# Altium schematic symbol library PCB_library.SchLib: 27 symbols
Pins are listed as number, name and electrical type; pins without a type are passive.

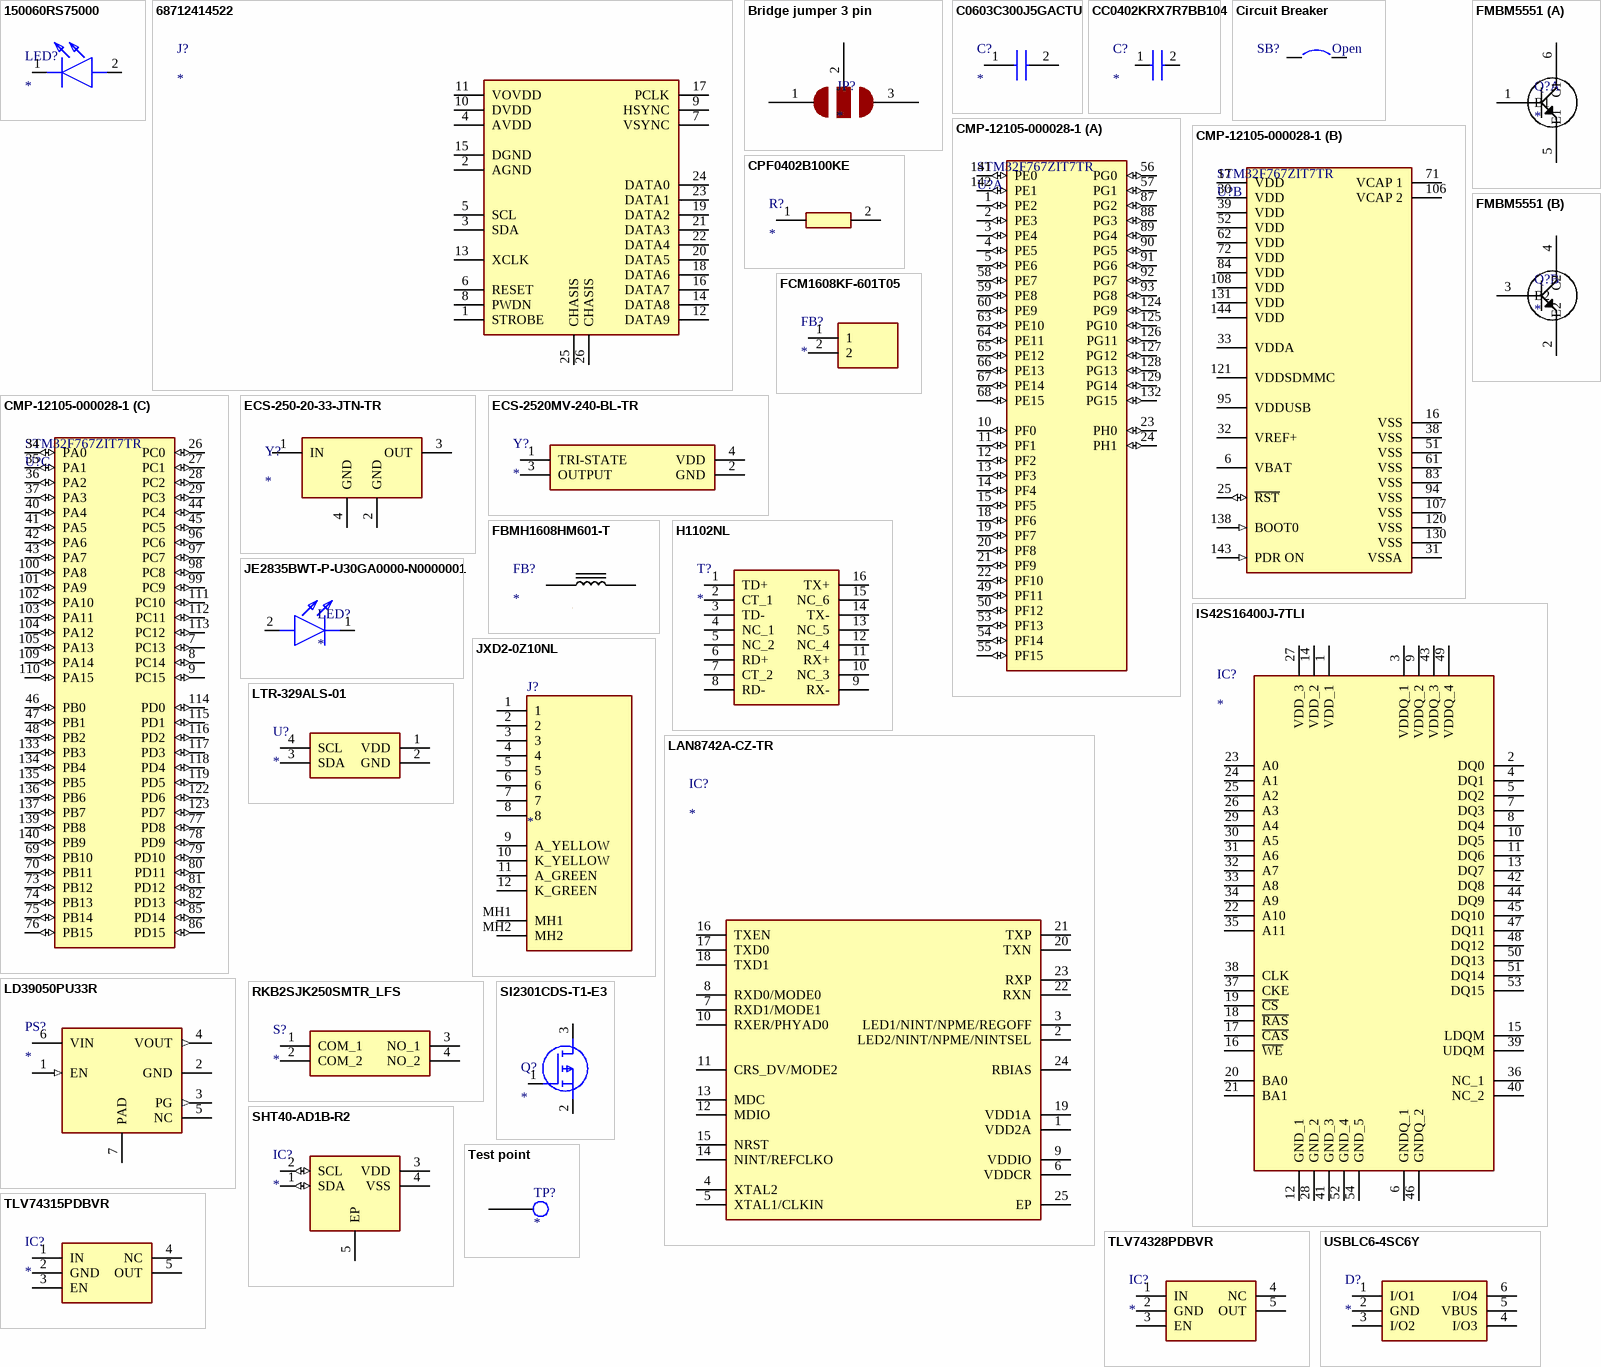
[diagram p0: symbols 150060RS75000 to USBLC6-4SC6Y]

## 150060RS75000
designator LED?
LED; Manufacturer_Name: Wurth Elektronik; Manufacturer_Part_Number: 150060RS75000; Datasheet Link: http://katalog.we-online.de/led/datasheet/150060RS75000.pdf; Height: 0.8mm; Mouser Part Number: 710-150060RS75000; Mouser Price/Stock: https://www.mouser.co.uk/ProductDetail/Wurth-Elektronik/150060RS75000?qs=LlUlMxKIyB3QnmZ3fw%2FVCA%3D%3D
footprint LEDC1608X80N
pins: 1 K, 2 A

## 68712414522
designator J?
Connector; Manufacturer_Name: Wurth Elektronik; Manufacturer_Part_Number: 68712414522; Datasheet Link: http://katalog.we-online.com/em/datasheet/6871xx14522.pdf; Height: 2mm; Mouser Part Number: 710-68712414522; Mouser Price/Stock: https://www.mouser.co.uk/ProductDetail/Wurth-Elektronik/68712414522?qs=gQDq3jdaPP%252BItTj8tkqRTw%3D%3D
footprint 68712414522
pins: 1 STROBE, 2 AGND, 3 SDA, 4 AVDD, 5 SCL, 6 RESET, 7 VSYNC, 8 PWDN, 9 HSYNC, 10 DVDD, 11 VOVDD, 12 DATA9, 13 XCLK, 14 DATA8, 15 DGND, 16 DATA7, 17 PCLK, 18 DATA6, 19 DATA2, 20 DATA5, 21 DATA3, 22 DATA4, 23 DATA1, 24 DATA0, 25 CHASIS, 26 CHASIS

## Bridge jumper 3 pin
designator JP?
footprint Bridge jumper 3 pin
pins: 1, 2, 3

## C0603C300J5GACTU
designator C?
Capacitor; Manufacturer_Name: KEMET; Manufacturer_Part_Number: C0603C300J5GACTU; Description: SMD Comm C0G; Datasheet Link: https://content.kemet.com/datasheets/KEM_C1003_C0G_SMD.pdf; Height: 0.87mm; Mouser Part Number: 80-C0603C300J5G; Mouser Price/Stock: https://www.mouser.co.uk/ProductDetail/KEMET/C0603C300J5GACTU?qs=KQYYlyH3z3RpeXhtJmCcMA%3D%3D; Arrow Part Number: C0603C300J5GACTU; Arrow Price/Stock: https://www.arrow.com/en/products/c0603c300j5gactu/kemet-corporation
footprint CAPC1608X87N
pins: 1, 2

## CC0402KRX7R7BB104
designator C?
Capacitor; Manufacturer_Name: KEMET; Manufacturer_Part_Number: CC0402KRX7R7BB104; Datasheet Link: http://www.datasheets360.com/pdf/-5354154806277341459; Height: 0.55mm; Mouser Part Number: 603-CC402KRX7R7BB104; Mouser Price/Stock: https://www.mouser.co.uk/ProductDetail/YAGEO/CC0402KRX7R7BB104?qs=AgBp2OyFlx%252BSOyhfyS7hpw%3D%3D; Arrow Part Number: CC0402KRX7R7BB104; Arrow Price/Stock: https://www.arrow.com/en/products/cc0402krx7r7bb104/yageo?region=nac
footprint CAPC1005X55N
pins: 1, 2

## Circuit Breaker
designator SB?, comment Open
Circuit Breaker; Published: 24-Mar-1999; Revision: July-2002: Re-released for DXP Platform.; Publisher: Altium Limited
footprint SB_0603 (Jumper)
pins: 1, 2

## CMP-12105-000028-1
designator U?, comment STM32F767ZIT7TR
ARM® Cortex®-M7 STM32F7 Microcontroller IC 32-Bit 216MHz 2MB (2M x 8) FLASH 144-LQFP (20x20); Manufacturer: STMicroelectronics; Standoff Height: 0.05mm; Number Of A/D Converters: 3; Ram Size: 512KBytes; Number Of Uart Channels: 8; Number Of Cores: 1; Max Junction Temp: +125°C; Number Of I/Os: 114; Core Architecture: ARM Cortex-M7; Number Of Spi Channels: 6; Interface: I2C,SPI,UART,USART,CAN,USB,LIN,IrDA,I2S,SMBus,Other; Max Supply Voltage: 3.6V; Number Of Adc Channels: 24; Memory Size: 2048KBytes; Min Supply Voltage: 1.65V; Number Of I2C Channels: 4; Number Of Timers/Counters: 15; Data Bus Width: 32bits; Temperature Range Low: -40°C; Category: IC; Memory Type: FLASH; Ambient Temperature Range Low: -40°C; RoHS: TRUE; ComponentLink2URL: https://www.st.com/resource/en/datasheet/stm32f767zi.pdf; Frequency: 216MHz; Temperature Range High: +125°C; Temperature: -40°C to +125°C; Manufacturer Part Number: STM32F767ZIT7TR; Package: LQFP144-1A; Number Of Usb Channels: 1; Device Class L1: Integrated Circuits (ICs); Octopart: https://octopart.com/stm32f767zit7tr-stmicroelectronics-104904785; Device Class L3: Microcontrollers; Ambient Temperature Range High: +105°C; ComponentLink2Description: Datasheet; Automotive: No; Lead Free: Yes; Device Class L2: Embedded Processors and Controllers; Height: 1.6mm
footprint FP-LQFP144-1A-IPC_C
footprint FP-LQFP144-1A-MFG
footprint FP-LQFP144-1A-IPC_A
footprint FP-LQFP144-1A-IPC_B
part A pins: 1 PE2 (io), 2 PE3 (io), 3 PE4 (io), 4 PE5 (io), 5 PE6 (io), 10 PF0 (io), 11 PF1 (io), 12 PF2 (io), 13 PF3 (io), 14 PF4 (io), 15 PF5 (io), 18 PF6 (io), 19 PF7 (io), 20 PF8 (io), 21 PF9 (io), 22 PF10 (io), 23 PH0 (io), 24 PH1 (io), 49 PF11 (io), 50 PF12 (io), 53 PF13 (io), 54 PF14 (io), 55 PF15 (io), 56 PG0 (io), 57 PG1 (io), 58 PE7 (io), 59 PE8 (io), 60 PE9 (io), 63 PE10 (io), 64 PE11 (io), 65 PE12 (io), 66 PE13 (io), 67 PE14 (io), 68 PE15 (io), 87 PG2 (io), 88 PG3 (io), 89 PG4 (io), 90 PG5 (io), 91 PG6 (io), 92 PG7 (io), 93 PG8 (io), 124 PG9 (io), 125 PG10 (io), 126 PG11 (io), 127 PG12 (io), 128 PG13 (io), 129 PG14 (io), 132 PG15 (io), 141 PE0 (io), 142 PE1 (io)
part B pins: 6 VBAT (power), 16 VSS (power), 17 VDD (power), 25 ~{RST} (io), 30 VDD (power), 31 VSSA (power), 32 VREF+ (power), 33 VDDA (power), 38 VSS (power), 39 VDD (power), 51 VSS (power), 52 VDD (power), 61 VSS (power), 62 VDD (power), 71 VCAP 1 (power), 72 VDD (power), 83 VSS (power), 84 VDD (power), 94 VSS (power), 95 VDDUSB (power), 106 VCAP 2 (power), 107 VSS (power), 108 VDD (power), 120 VSS (power), 121 VDDSDMMC (power), 130 VSS (power), 131 VDD (power), 138 BOOT0 (in), 143 PDR ON (in), 144 VDD (power)
part C pins: 7 PC13 (io), 8 PC14 (io), 9 PC15 (io), 26 PC0 (io), 27 PC1 (io), 28 PC2 (io), 29 PC3 (io), 34 PA0 (io), 35 PA1 (io), 36 PA2 (io), 37 PA3 (io), 40 PA4 (io), 41 PA5 (io), 42 PA6 (io), 43 PA7 (io), 44 PC4 (io), 45 PC5 (io), 46 PB0 (io), 47 PB1 (io), 48 PB2 (io), 69 PB10 (io), 70 PB11 (io), 73 PB12 (io), 74 PB13 (io), 75 PB14 (io), 76 PB15 (io), 77 PD8 (io), 78 PD9 (io), 79 PD10 (io), 80 PD11 (io), 81 PD12 (io), 82 PD13 (io), 85 PD14 (io), 86 PD15 (io), 96 PC6 (io), 97 PC7 (io), 98 PC8 (io), 99 PC9 (io), 100 PA8 (io), 101 PA9 (io), 102 PA10 (io), 103 PA11 (io), 104 PA12 (io), 105 PA13 (io), 109 PA14 (io), 110 PA15 (io), 111 PC10 (io), 112 PC11 (io), 113 PC12 (io), 114 PD0 (io), 115 PD1 (io), 116 PD2 (io), 117 PD3 (io), 118 PD4 (io), 119 PD5 (io), 122 PD6 (io), 123 PD7 (io), 133 PB3 (io), 134 PB4 (io), 135 PB5 (io), 136 PB6 (io), 137 PB7 (io), 139 PB8 (io), 140 PB9 (io)

## CPF0402B100KE
designator R?
Resistor; Manufacturer_Name: TE Connectivity; Manufacturer_Part_Number: CPF0402B100KE; Datasheet Link: http://www.farnell.com/datasheets/1786775.pdf; Height: 0.35mm; Mouser Part Number: 279-CPF0402B100KE; Mouser Price/Stock: https://www.mouser.co.uk/ProductDetail/TE-Connectivity-Holsworthy/CPF0402B100KE?qs=CXI0wBT1M2h4W2Gm72yIGA%3D%3D; Arrow Part Number: CPF0402B100KE; Arrow Price/Stock: https://www.arrow.com/en/products/cpf0402b100ke/te-connectivity?region=nac
footprint RESC1005X35N
pins: 1, 2

## ECS-250-20-33-JTN-TR
designator Y?
Crystal or Oscillator; Manufacturer_Name: RALTRON; Manufacturer_Part_Number: CO4605-100.000-T-TR; Datasheet Link: http://www.raltron.com//wp-content/uploads/2018/12/clock_co43_46_Series-updated.pdf; Height: 1.8mm
footprint ECS-250-20-33-JTN-TR
pins: 1 IN, 2 GND, 3 OUT, 4 GND

## ECS-2520MV-240-BL-TR
designator Y?
Crystal or Oscillator; Manufacturer_Name: ECS; Manufacturer_Part_Number: ECS-2520MV-120-BN-TR; Datasheet Link: https://componentsearchengine.com/Datasheets/1/ECS-2520MV-120-BN-TR.pdf; Height: 0.9mm; Mouser Part Number: 520-2520MV-120-BN-T; Mouser Price/Stock: https://www.mouser.co.uk/ProductDetail/ECS/ECS-2520MV-120-BN-TR?qs=fAHHVMwC%252BbguRJeb0QafEw%3D%3D; Arrow Part Number: ECS-2520MV-120-BN-TR; Arrow Price/Stock: https://www.arrow.com/en/products/ecs-2520mv-120-bn-tr/ecs-international?region=nac
footprint ECS2520MV120BNTR
pins: 1 TRI-STATE, 2 GND, 3 OUTPUT, 4 VDD

## FBMH1608HM601-T
designator FB?
Ferrite Bead; Manufacturer_Name: TAIYO YUDEN; Manufacturer_Part_Number: FBMH1608HM601-T; Datasheet Link: https://componentsearchengine.com/Datasheets/2/FBMH1608HM601-T.pdf; Height: 0.9mm; Mouser Part Number: 963-FBMH1608HM601-T; Mouser Price/Stock: https://www.mouser.co.uk/ProductDetail/Taiyo-Yuden/FBMH1608HM601-T?qs=I6KAKw0tg2y6O4cu0afp%252BA%3D%3D; Arrow Part Number: FBMH1608HM601-T; Arrow Price/Stock: https://www.arrow.com/en/products/fbmh1608hm601-t/taiyo-yuden
footprint BEADC1608X90N
pins: 1, 2

## FCM1608KF-601T05
designator FB?
Ferrite Bead; Manufacturer_Name: TAITEC; Manufacturer_Part_Number: FCM1608KF-601T05; Datasheet Link: https://datasheet.lcsc.com/szlcsc/1809192135_TAITEC-FCM1608KF-601T05_C133937.pdf; Height: 0.95mm
footprint BEADC1608X95N
pins: 1, 2

## FMBM5551
designator Q?
Transistor NPN/NPN BISS; Manufacturer_Name: onsemi; Manufacturer_Part_Number: FMBM5551; Datasheet Link: https://www.onsemi.com/pdf/datasheet/fmbm5551-d.pdf; Height: 1.1mm; Mouser Part Number: 512-FMBM5551; Mouser Price/Stock: https://www.mouser.co.uk/ProductDetail/onsemi-Fairchild/FMBM5551?qs=VOMQJJE%252BBNnHm%2F5A44uOUQ%3D%3D; Arrow Part Number: FMBM5551; Arrow Price/Stock: https://www.arrow.com/en/products/fmbm5551/on-semiconductor?region=nac
footprint SOT95P280X110-6N
part A pins: 1 B1, 5 E1, 6 C1
part B pins: 2 E2, 3 B2, 4 C2

## H1102NL
designator T?
Transformer; Manufacturer_Name: Pulse Electronics; Manufacturer_Part_Number: H1102NL; Datasheet Link: https://productfinder.pulseeng.com/products/datasheets/h1102nl.pdf; Height: 5.97mm; Mouser Part Number: 673-H1102NL; Mouser Price/Stock: https://www.mouser.co.uk/ProductDetail/Pulse-Electronics/H1102NL?qs=EKu32SdDin%2FHU33L94JZxw%3D%3D; Arrow Part Number: H1102NL; Arrow Price/Stock: https://www.arrow.com/en/products/h1102nl/pulse-electronics-corporation?region=europe
footprint SOIC127P940X597-16N
pins: 1 TD+, 2 CT_1, 3 TD-, 4 NC_1, 5 NC_2, 6 RD+, 7 CT_2, 8 RD-, 9 RX-, 10 NC_3, 11 RX+, 12 NC_4, 13 NC_5, 14 TX-, 15 NC_6, 16 TX+

## IS42S16400J-7TLI
designator IC?
Integrated Circuit; Manufacturer_Name: Integrated Silicon Solution Inc.; Manufacturer_Part_Number: IS42S16400J-7TLI; Datasheet Link: http://www.issi.com/WW/pdf/42-45S16400J.pdf; Height: 1.2mm; Mouser Part Number: 870-IS42S16400J-7TLI; Mouser Price/Stock: https://www.mouser.co.uk/ProductDetail/ISSI/IS42S16400J-7TLI?qs=eOmjsnl%2FhF6IYGbICFWNhg%3D%3D; Arrow Part Number: IS42S16400J-7TLI; Arrow Price/Stock: https://www.arrow.com/en/products/is42s16400j-7tli/integrated-silicon-solution-inc?region=europe
footprint SOP80P1176X120-54N
pins: 1 VDD_1, 2 DQ0, 3 VDDQ_1, 4 DQ1, 5 DQ2, 6 GNDQ_1, 7 DQ3, 8 DQ4, 9 VDDQ_2, 10 DQ5, 11 DQ6, 12 GND_1, 13 DQ7, 14 VDD_2, 15 LDQM, 16 ~{WE}, 17 ~{CAS}, 18 ~{RAS}, 19 ~{CS}, 20 BA0, 21 BA1, 22 A10, 23 A0, 24 A1, 25 A2, 26 A3, 27 VDD_3, 28 GND_2, 29 A4, 30 A5, 31 A6, 32 A7, 33 A8, 34 A9, 35 A11, 36 NC_1, 37 CKE, 38 CLK, 39 UDQM, 40 NC_2, 41 GND_3, 42 DQ8, 43 VDDQ_3, 44 DQ9, 45 DQ10, 46 GNDQ_2, 47 DQ11, 48 DQ12, 49 VDDQ_4, 50 DQ13, 51 DQ14, 52 GND_4, 53 DQ15, 54 GND_5

## JE2835BWT-P-U30GA0000-N0000001
designator LED?
LED; Manufacturer_Name: CREE LED; Manufacturer_Part_Number: JE2835BWT-P-U35GA0000-N0000001; Datasheet Link: https://th.mouser.com/datasheet/2/723/JSeries_2835_3V_Consolidated-2940268.pdf; Mouser Part Number: 941-JE2835BWTPU30GAN; Mouser Price/Stock: https://www.mouser.co.uk/ProductDetail/Cree-Inc/JE2835BWT-P-U30GA0000-N0000001/?qs=wnTfsH77Xs7%2FtRTpVd%252BPCA%3D%3D; Arrow Part Number: JE2835BWT-P-U30GA0000-N0000001; Arrow Price/Stock: https://www.arrow.com/en/products/je2835bwt-p-u30ga0000-n0000001/cree
footprint JE2835BWTPU30GA0000N0000001
pins: 1 K, 2 A

## JXD2-0Z10NL
designator J?
Conn Jack 1PORT 100 Base-tx Pcb; Manufacturer_Name: Pulse Electronics; Manufacturer_Part_Number: JXD2-0Z10NL; Manufacturer: Pulse; Datasheet Link: https://productfinder.pulseelectronics.com/api/open/product-attachments/datasheet/jxd2-0z10nl; Height: 17.2mm; Mouser Part Number: 673-JXD2-0Z10NL; Mouser Price/Stock: https://www.mouser.co.uk/ProductDetail/Pulse-Electronics/JXD2-0Z10NL?qs=MyNHzdoqoQKKbi0V%2FxsyPg%3D%3D; Arrow Part Number: JXD2-0Z10NL; Arrow Price/Stock: https://www.arrow.com/en/products/jxd2-0z10nl/pulse-electronics-corporation?region=europe; Supplier: Farnell; Supplier Part Number: 4058812; Manufacturer Part Number: JXD2-0Z10NL; RoHS: No; Category: Modular / Ethernet Connectors; Stock: 762; Pricing: 1=6, 10=5.17, 25=4.94, 50=4.69, 100=4.46, 500=4.21 (EUR); ComponentLink1URL: https://datasheet.octopart.com/JXD2-0Z10NL-Pulse-datasheet-165161310.pdf?src-supplier=Sager+Electronics; ComponentLink1Description: https://datasheet.octopart.com/JXD2-0Z10NL-Pulse-datasheet-165161310.pdf?src-supplier=Sager+Electronics
footprint JXD20Z10NL
pins: 1, 2, 3, 4, 5, 6, 7, 8, 9 A_YELLOW, 10 K_YELLOW, 11 A_GREEN, 12 K_GREEN, MH1, MH2

## LAN8742A-CZ-TR
designator IC?
Integrated Circuit; Manufacturer_Name: Microchip; Manufacturer_Part_Number: LAN8742A-CZ-TR; Datasheet Link: http://ww1.microchip.com/downloads/en/DeviceDoc/8742a.pdf; Height: 1mm; Mouser Part Number: 579-LAN8742A-CZ-TR; Mouser Price/Stock: https://www.mouser.co.uk/ProductDetail/Microchip-Technology/LAN8742A-CZ-TR?qs=6qKXPk0vzx0Y6uPCt7MXWw%3D%3D; Arrow Part Number: LAN8742A-CZ-TR; Arrow Price/Stock: https://www.arrow.com/en/products/lan8742a-cz-tr/microchip-technology?region=nac
footprint QFN50P400X400X100-25N-D
pins: 1 VDD2A, 2 LED2/NINT/NPME/NINTSEL, 3 LED1/NINT/NPME/REGOFF, 4 XTAL2, 5 XTAL1/CLKIN, 6 VDDCR, 7 RXD1/MODE1, 8 RXD0/MODE0, 9 VDDIO, 10 RXER/PHYAD0, 11 CRS_DV/MODE2, 12 MDIO, 13 MDC, 14 NINT/REFCLKO, 15 NRST, 16 TXEN, 17 TXD0, 18 TXD1, 19 VDD1A, 20 TXN, 21 TXP, 22 RXN, 23 RXP, 24 RBIAS, 25 EP

## LD39050PU33R
designator PS?
Power Supply; Manufacturer_Name: STMicroelectronics; Manufacturer_Part_Number: LD39050PU33R; Datasheet Link: https://componentsearchengine.com/Datasheets/2/LD39050PU33R.pdf; Height: 1mm; Mouser Part Number: 511-LD39050PU33R; Mouser Price/Stock: https://www.mouser.co.uk/ProductDetail/STMicroelectronics/LD39050PU33R?qs=5HwTSiuA5HCrgw9sKi%2FGcQ%3D%3D; Arrow Part Number: LD39050PU33R; Arrow Price/Stock: https://www.arrow.com/en/products/ld39050pu33r/stmicroelectronics?region=europe
footprint SON95P300X300X100-7N-D
pins: 1 EN (in), 2 GND (power), 3 PG (out), 4 VOUT (out), 5 NC, 6 VIN (power), 7 PAD (power)

## LTR-329ALS-01
designator U?
Undefined or Miscellaneous; Manufacturer_Name: Lite-On; Manufacturer_Part_Number: LTR-329ALS-01; Datasheet Link: http://www.mouser.com/ds/2/239/liteon_LTR-329ALS-01-1175539.stp; Height: 0mm; Mouser Part Number: 859-LTR-329ALS-01; Mouser Price/Stock: https://www.mouser.co.uk/ProductDetail/Lite-On/LTR-329ALS-01?qs=Ml%2FaxAEbwm8eHg8LIDPUrw%3D%3D; Arrow Part Number: LTR-329ALS-01; Arrow Price/Stock: https://www.arrow.com/en/products/ltr-329als-01/lite-on-technology?region=nac
footprint LTR329ALS01
pins: 1 VDD, 2 GND, 3 SDA, 4 SCL

## RKB2SJK250SMTR_LFS
designator S?
Switch; Manufacturer_Name: C & K COMPONENTS; Manufacturer_Part_Number: RKB2SJK250SMTR LFS; Datasheet Link: https://www.ckswitches.com/media/3130/ck_rk_datasheet.pdf; Height: 2.7mm; Mouser Part Number: 611-RKB2SJK250SMTRLF; Mouser Price/Stock: https://www.mouser.co.uk/ProductDetail/CK/RKB2SJK250SMTR-LFS?qs=iLbezkQI%252BsjlTHT7lSJp%2Fw%3D%3D; Arrow Part Number: RKB2SJK250SMTR LFS; Arrow Price/Stock: https://www.arrow.com/en/products/rkb2sjk250smtr-lfs/ck?region=europe
footprint RKB2SJK250SMTRLFS
pins: 1 COM_1, 2 COM_2, 3 NO_1, 4 NO_2

## SHT40-AD1B-R2
designator IC?
Integrated Circuit; Manufacturer_Name: Sensirion; Manufacturer_Part_Number: SHT40-AD1B-R2; Datasheet Link: https://www.mouser.dk/datasheet/2/682/Sensirion_10272020_Datasheet_SHT4x-1919523.pdf; Height: 0.59mm; Mouser Part Number: 403-SHT40-AD1B-R2; Mouser Price/Stock: https://www.mouser.co.uk/ProductDetail/Sensirion/SHT40-AD1B-R2?qs=zW32dvEIR3scTT6A4VuzaQ%3D%3D; Arrow Part Number: SHT40-AD1B-R2; Arrow Price/Stock: https://www.arrow.com/en/products/sht40-ad1b-r2/sensirion-ag?region=nac
footprint SON80P150X150X59-5N
pins: 1 SDA (io), 2 SCL (io), 3 VDD (power), 4 VSS (power), 5 EP (power)

## SI2301CDS-T1-E3
designator Q?
MOSFET (P-Channel); Manufacturer_Name: Vishay; Manufacturer_Part_Number: SI2301CDS-T1-E3; Datasheet Link: https://componentsearchengine.com/Datasheets/2/SI2301CDS-T1-E3.pdf; Height: 1.12mm; Mouser Part Number: 781-SI2301CDS-E3; Mouser Price/Stock: https://www.mouser.co.uk/ProductDetail/Vishay-Semiconductors/SI2301CDS-T1-E3?qs=45wPT2wjtGkQH%252ByrbRpz4Q%3D%3D; Arrow Part Number: SI2301CDS-T1-E3; Arrow Price/Stock: https://www.arrow.com/en/products/si2301cds-t1-e3/vishay?region=nac
footprint SOT95P237X112-3N
pins: 1 G, 2 S, 3 D

## Test point
designator TP?
footprint test point
pins: 1

## TLV74315PDBVR
designator IC?
Integrated Circuit; Manufacturer_Name: Texas Instruments; Manufacturer_Part_Number: TLV74315PDBVR; Datasheet Link: http://www.ti.com/lit/gpn/tlv743p; Height: 1.45mm; Mouser Part Number: 595-TLV74315PDBVR; Mouser Price/Stock: https://www.mouser.com/Search/Refine.aspx?Keyword=595-TLV74315PDBVR; Arrow Part Number: TLV74315PDBVR; Arrow Price/Stock: https://www.arrow.com/en/products/tlv74315pdbvr/texas-instruments
footprint SOT95P280X145-5N
pins: 1 IN, 2 GND, 3 EN, 4 NC, 5 OUT

## TLV74328PDBVR
designator IC?
Integrated Circuit; Manufacturer_Name: Texas Instruments; Manufacturer_Part_Number: TLV74328PDBVR; Datasheet Link: http://www.ti.com/lit/gpn/tlv743p; Height: 1.45mm; Mouser Part Number: 595-TLV74328PDBVR; Mouser Price/Stock: https://www.mouser.co.uk/ProductDetail/Texas-Instruments/TLV74328PDBVR?qs=EU6FO9ffTwcPVi1bAnm%2FxQ%3D%3D; Arrow Part Number: TLV74328PDBVR; Arrow Price/Stock: https://www.arrow.com/en/products/tlv74328pdbvr/texas-instruments
footprint SOT95P280X145-5N
pins: 1 IN, 2 GND, 3 EN, 4 NC, 5 OUT

## USBLC6-4SC6Y
designator D?
Diode ESD (Uni-directional); Manufacturer_Name: STMicroelectronics; Manufacturer_Part_Number: USBLC6-4SC6Y; Datasheet Link: https://www.st.com/resource/en/datasheet/usblc6-4sc6y.pdf; Height: 1.45mm; Mouser Part Number: 511-USBLC6-4SC6Y; Mouser Price/Stock: https://www.mouser.co.uk/ProductDetail/STMicroelectronics/USBLC6-4SC6Y?qs=gNDSiZmRJS%252B5K%252Bxjl%252Bw9xw%3D%3D; Arrow Part Number: USBLC6-4SC6Y; Arrow Price/Stock: https://www.arrow.com/en/products/usblc6-4sc6y/stmicroelectronics?region=nac
footprint SOT95P280X145-6N
pins: 1 I/O1, 2 GND, 3 I/O2, 4 I/O3, 5 VBUS, 6 I/O4